# Altium schematic symbol library XS_USB_4P.Schlib: 1 symbol
Pins are listed as number, name and electrical type; pins without a type are passive.

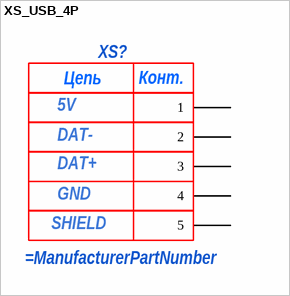
[diagram p0: symbol XS_USB_4P]

## XS_USB_4P
designator XS?
pins: 1, 2, 3, 4, 5
text: Цепь; Конт.; 5V; DAT-; DAT+; GND; SHIELD